# Altium integrated library lps_display_rev5.IntLib: 39 symbols
Pins are listed as number, name and electrical type; pins without a type are passive.

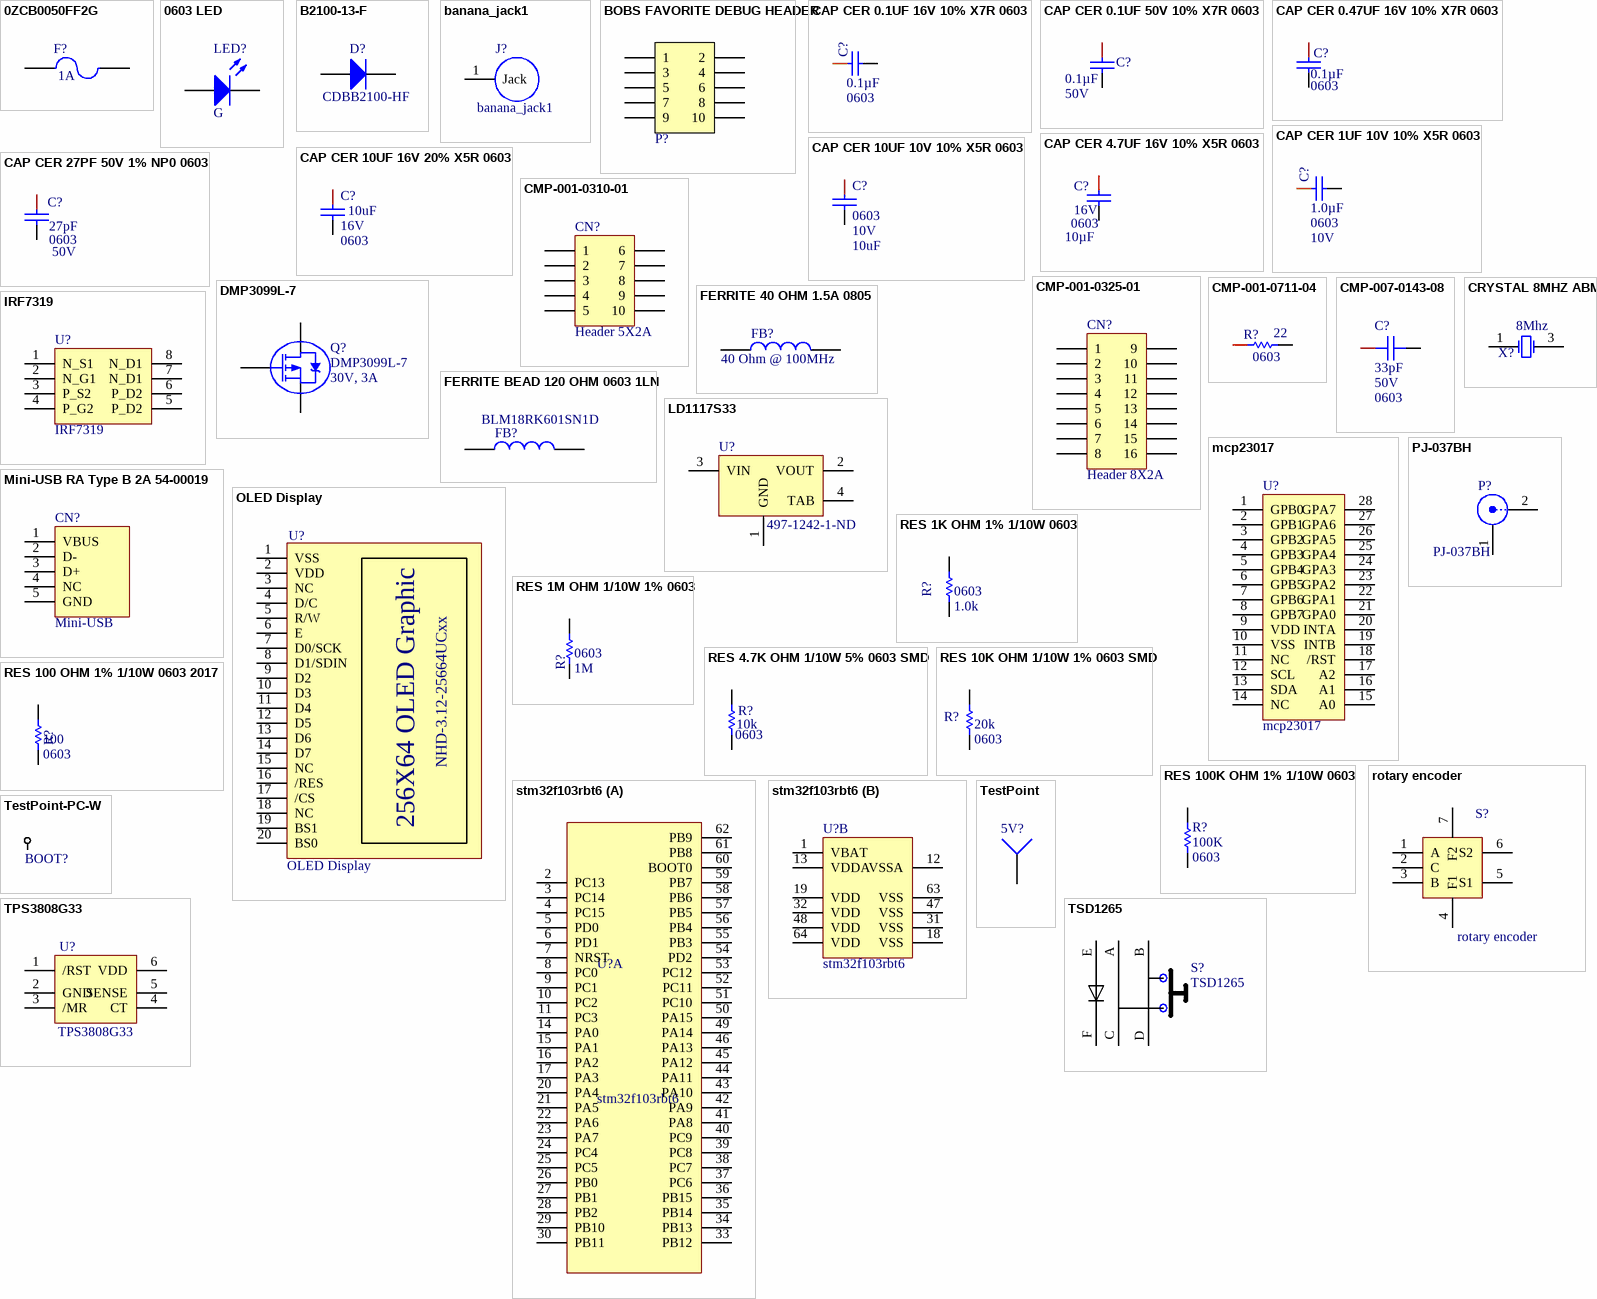
[diagram p0: symbols 0ZCB0050FF2G to TSD1265]

## 0ZCB0050FF2G
designator F?, comment 1A
1A PTC Fuse; Manufacturer: Bel Fuse; MPN: 0ZCB0050FF2G; Vendor: Digikey; PN: 507-1489-1-ND
footprint PTC-3225[1210] (Chip PTC; Body 3.2 x 2.5 mm (LxW typ))
pins: 1, 2

## 0603 LED
designator LED?, comment G
0603 SMD LED; PN: P11500CT-ND; Vendor: Digikey
footprint SM-LED-0603 (0603 LED)
pins: 1, 2

## B2100-13-F
designator D?, comment CDBB2100-HF
DIODE SCHOTTKY 100V 2A SMB; Manufacturer: Comchip Technology; Voltage - Forward (Vf) (Max) @ If: 810mV @ 2A; Speed: Fast Recovery =< 500ns, > 200mA (Io); Current - Reverse Leakage @ Vr: 500µA @ 100V; Capacitance @ Vr, F: 30pF @ 4V, 1MHz; Supplier 1: Digi-Key; Manufacturer Part Number: CDBB2100-HF; RoHS: RoHS Compliant; Category: Discrete Semiconductor Products; Stock 1: 7333; Pricing 1: 1=0.46, 10=0.364, 25=0.3068, 100=0.2498, 250=0.207, 500=0.1713, 1000=0.12848 (USD); Packaging: Cut Tape (CT); Part Status: Active; Diode Type: Schottky; Voltage - DC Reverse (Vr) (Max): 100V; Current - Average Rectified (Io): 2A; Mounting Type: Surface Mount; Package / Case: DO-214AA, SMB; Supplier Device Package: DO-214AA (SMB); Operating Temperature - Junction: -50°C ~ 150°C; ComponentLink1URL: http://www.comchiptech.com/cms/UserFiles/CDBB240-HF%20Thru503873.%20CDBB2100-HF%20RevD.pdf; ComponentLink1Description: http://www.comchiptech.com/cms/UserFiles/CDBB240-HF%20Thru503873.%20CDBB2100-HF%20RevD.pdf; Supplier Part Number 1: 641-1714-1-ND
footprint DO-214-AC/SMA (DO-214-AC/SMA; 2 C-Bend Leads; Body 5 x 2.7 mm, inc. leads (LxW))
pins: 1 A (power), 2 K

## banana_jack1
designator J?
footprint Banana_jack1
pins: 1 Jack

## BOBS FAVORITE DEBUG HEADER
designator P?  (value not drawn)
HEADER 10 POS DUAL .05" SMD; Manufacturer: Samtec Inc.; Manufacturer Part Number: FTSH-105-01-L-DV-K; Connector Type: Header, Shrouded; Number of Positions: 10; Number of Positions Loaded: All; Pitch: 0.050" (1.27mm); Supplier 1: Digi-Key; RoHS: RoHS Compliant; Category: Connectors, Interconnects; Stock 1: 112; Pricing 1: 1=3.25, 10=2.75, 50=2.375, 100=2.125, 250=1.875, 500=1.75, 1000=1.625, 2500=1.5625, 5000=1.53125 (USD); Packaging: Tube; Contact Type: Male Pin; Number of Rows: 2; Row Spacing: 0.050" (1.27mm); Contact Mating Length: 0.120" (3.05mm); Mounting Type: Surface Mount; Termination: Solder; Fastening Type: -; Features: -; Contact Finish: Gold; Contact Finish Thickness: 10µin (0.25µm); Color: Black; ComponentLink1URL: http://suddendocs.samtec.com/prints/ftsh-1xx-xx-xxx-dv-xxx-mkt.pdf; ComponentLink1Description: http://suddendocs.samtec.com/prints/ftsh-1xx-xx-xxx-dv-xxx-mkt.pdf; Supplier Part Number 1: SAM8799-ND
footprint BOBS FAVORITE DEBUG HDR (trying to fix problem)
pins: 1, 2, 3, 4, 5, 6, 7, 8, 9, 10

## CAP CER 0.1UF 16V 10% X7R 0603
designator C?, comment Capacitance: 0.1µF  Package / Case: 0603  (hidden comment: 0.1uF)
0.1uF 0603 16V; Manufacturer: Kemet; Manufacturer Part Number: C0603C104K4RACTU; Tolerance: ±10%; Temperature Coefficient: X7R; Supplier 1: Digi-Key; RoHS: RoHS Compliant; Category: Capacitors; Stock 1: 2360000; Pricing 1: 4000=0.00414, 8000=0.00378, 12000=0.0036, 28000=0.00342, 100000=0.00248 (USD); Packaging: Tape & Reel (TR); Mounting Type: Surface Mount, MLCC; Operating Temperature: -55°C ~ 125°C; Applications: General Purpose; Ratings: -; Size / Dimension: 0.063" L x 0.031" W (1.60mm x 0.80mm); Height - Seated (Max): -; Thickness (Max): 0.034" (0.87mm); Lead Spacing: -; Features: -; Lead Style: -; ComponentLink1URL: http://www.kemet.com/datasheets&C0603C104K4RACTU; ComponentLink1Description: http://www.kemet.com/datasheets&C0603C104K4RACTU; Supplier Part Number 1: 399-1096-2-ND; Voltage - Rated: 16V
footprint CAPC0603(1608)_L (Chip Capacitor, Body 1.6x0.8mm, Height 1.0mm, IPC High Density)
footprint CAPC0603(1608)_M (Chip Capacitor, Body 1.6x0.8mm, Height 1.0mm, IPC Low Density)
footprint CAPC0603(1608)_N (Chip Capacitor, Body 1.6x0.8mm, Height 1.0mm, IPC Medium Density)
pins: 1, 2

## CAP CER 0.1UF 50V 10% X7R 0603
designator C?, comment Capacitance: 0.1µF  Voltage - Rated: 50V  (hidden comment: 0.1uF 0603 50V)
Manufacturer: Kemet; Manufacturer Part Number: C0603C104K5RACTU; Tolerance: ±10%; Temperature Coefficient: X7R; ClassName: AD1; Supplier 1: Digi-Key; RoHS: RoHS Compliant; Category: Capacitors; Stock 1: 1397942; Pricing 1: 1=0.1, 10=0.041, 50=0.0222, 100=0.0187, 250=0.01532, 500=0.0131, 1000=0.0102 (USD); Packaging: Cut Tape (CT); Mounting Type: Surface Mount, MLCC; Operating Temperature: -55°C ~ 125°C; Applications: General Purpose; Ratings: -; Package / Case: 0603 (1608 Metric); Size / Dimension: 0.063" L x 0.031" W (1.60mm x 0.80mm); Height - Seated (Max): -; Thickness (Max): 0.034" (0.87mm); Lead Spacing: -; Features: -; Lead Style: -; ComponentLink1URL: http://www.kemet.com/docfinder?Partnumber=C0603C104K5RACTU; ComponentLink1Description: http://www.kemet.com/docfinder?Partnumber=C0603C104K5RACTU; Supplier Part Number 1: 399-5089-1-ND
footprint CAPC0603(1608)_L (Chip Capacitor, Body 1.6x0.8mm, Height 1.0mm, IPC High Density)
footprint CAPC0603(1608)_M (Chip Capacitor, Body 1.6x0.8mm, Height 1.0mm, IPC Low Density)
footprint CAPC0603(1608)_N (Chip Capacitor, Body 1.6x0.8mm, Height 1.0mm, IPC Medium Density)
pins: 1, 2

## CAP CER 0.47UF 16V 10% X7R 0603
designator C?, comment Package / Case: 0603  Capacitance: 0.1µF  (hidden comment: 0.47uF)
0.47uF 0603 16V; Manufacturer: Kemet; Manufacturer Part Number: C0603C474K4RACTU; Tolerance: ±10%; Temperature Coefficient: X7R; Supplier 1: Digi-Key; RoHS: RoHS Compliant; Category: Capacitors; Stock 1: 84679; Pricing 1: 1=0.15, 10=0.1, 50=0.0576, 100=0.0475, 250=0.04, 500=0.0335, 1000=0.0275 (USD); Packaging: Cut Tape (CT); Voltage - Rated: 16V; Mounting Type: Surface Mount, MLCC; Operating Temperature: -55°C ~ 125°C; Applications: General Purpose; Ratings: -; Size / Dimension: 0.063" L x 0.031" W (1.60mm x 0.80mm); Height - Seated (Max): -; Thickness (Max): 0.034" (0.87mm); Lead Spacing: -; Features: -; Lead Style: -; ComponentLink1URL: http://www.kemet.com/docfinder?Partnumber=C0603C474K4RACTU; ComponentLink1Description: http://www.kemet.com/docfinder?Partnumber=C0603C474K4RACTU; Supplier Part Number 1: 399-4922-1-ND
footprint CAPC0603(1608)_L (Chip Capacitor, Body 1.6x0.8mm, Height 1.0mm, IPC High Density)
footprint CAPC0603(1608)_M (Chip Capacitor, Body 1.6x0.8mm, Height 1.0mm, IPC Low Density)
footprint CAPC0603(1608)_N (Chip Capacitor, Body 1.6x0.8mm, Height 1.0mm, IPC Medium Density)
pins: 1, 2

## CAP CER 1UF 10V 10% X5R 0603
designator C?, comment Capacitance: 1.0µF  Package / Case: 0603  Voltage - Rated: 10V  (hidden comment: 1uF)
1uF 0603 10V; Manufacturer: Kemet; Manufacturer Part Number: C0603C105K8PACTU; Tolerance: ±10%; Temperature Coefficient: X5R; Supplier 1: Digi-Key; RoHS: RoHS Compliant; Category: Capacitors; Stock 1: 1121198; Pricing 1: 1=0.1, 10=0.043, 25=0.0304, 50=0.0232, 100=0.0196, 250=0.01608, 1000=0.0105 (USD); Packaging: Cut Tape (CT); Mounting Type: Surface Mount, MLCC; Operating Temperature: -55°C ~ 85°C; Applications: General Purpose; Ratings: -; Size / Dimension: 0.063" L x 0.031" W (1.60mm x 0.80mm); Height - Seated (Max): -; Thickness (Max): 0.035" (0.90mm); Lead Spacing: -; Features: -; Lead Style: -; ComponentLink1URL: http://www.kemet.com/datasheets&C0603C105K8PACTU; ComponentLink1Description: http://www.kemet.com/datasheets&C0603C105K8PACTU; Supplier Part Number 1: 399-3118-1-ND
footprint CAPC0603(1608)_L (Chip Capacitor, Body 1.6x0.8mm, Height 1.0mm, IPC High Density)
footprint CAPC0603(1608)_M (Chip Capacitor, Body 1.6x0.8mm, Height 1.0mm, IPC Low Density)
footprint CAPC0603(1608)_N (Chip Capacitor, Body 1.6x0.8mm, Height 1.0mm, IPC Medium Density)
pins: 1, 2

## CAP CER 4.7UF 16V 10% X5R 0603
designator C?, comment Voltage - Rated: 16V  Package / Case: 0603  Capacitance: 10µF  (hidden comment: 4.7UF 0603)
Manufacturer: Taiyo Yuden; Manufacturer Part Number: EMK107ABJ475KA-T; Tolerance: ±10%; Temperature Coefficient: X5R; ClassName: *; Supplier 1: Digi-Key; RoHS: RoHS Compliant; Category: Capacitors; Stock 1: 498907; Pricing 1: 1=0.26, 10=0.216, 50=0.1216, 100=0.108, 250=0.081, 500=0.07154, 1000=0.06345 (USD); Packaging: Cut Tape (CT); Mounting Type: Surface Mount, MLCC; Operating Temperature: -55°C ~ 85°C; Applications: General Purpose; Ratings: -; Size / Dimension: 0.063" L x 0.031" W (1.60mm x 0.80mm); Height - Seated (Max): -; Thickness (Max): 0.035" (0.90mm); Lead Spacing: -; Features: -; Lead Style: -; ComponentLink1URL: http://www.yuden.co.jp/or/product/category/capacitor/EMK107ABJ475KA-T.pdf; ComponentLink1Description: http://www.yuden.co.jp/or/product/category/capacitor/EMK107ABJ475KA-T.pdf; Supplier Part Number 1: 587-2786-1-ND
footprint CAPC0603(1608)_L (Chip Capacitor, Body 1.6x0.8mm, Height 1.0mm, IPC High Density)
footprint CAPC0603(1608)_M (Chip Capacitor, Body 1.6x0.8mm, Height 1.0mm, IPC Low Density)
footprint CAPC0603(1608)_N (Chip Capacitor, Body 1.6x0.8mm, Height 1.0mm, IPC Medium Density)
pins: 1, 2

## CAP CER 10UF 10V 10% X5R 0603
designator C?, comment Package / Case: 0603  Voltage - Rated: 10V  Capacitance: 10uF  (hidden comment: CAP 10UF 10V 10% X5R 0603)
10uF 0603; Manufacturer: Samsung Electro-Mechanics America, Inc; Manufacturer Part Number: CL10A106KP8NNNC; ClassName: *; Supplier 1: Digi-Key; RoHS: RoHS Compliant; Category: Capacitors; Stock 1: 157585; Pricing 1: 1=0.48, 10=0.42, 25=0.3, 100=0.21, 500=0.153, 1000=0.138 (USD); Packaging: Cut Tape (CT); Tolerance: ±10%; Temperature Coefficient: X5R; Mounting Type: Surface Mount, MLCC; Operating Temperature: -55°C ~ 85°C; Applications: General Purpose; Ratings: -; Size / Dimension: 0.063" L x 0.031" W (1.60mm x 0.80mm); Height - Seated (Max): -; Thickness (Max): 0.035" (0.90mm); Lead Spacing: -; Features: -; Lead Style: -; ComponentLink1URL: http://www.samsungsem.com/kr/front/downloadcms.do?path=/kr/support/product-search/mlcc/__icsFiles/afieldfile/2014/11/05&fileName=S_CL10A106KP8NNNC.pdf; ComponentLink1Description: http://www.samsungsem.com/kr/front/downloadcms.do?path=/kr/support/product-search/mlcc/__icsFiles/afieldfile/2014/11/05&fileName=S_CL10A106KP8NNNC.pdf; Supplier Part Number 1: 1276-1192-1-ND
footprint CAPC0603(1608)_L (Chip Capacitor, Body 1.6x0.8mm, Height 1.0mm, IPC High Density)
footprint CAPC0603(1608)_M (Chip Capacitor, Body 1.6x0.8mm, Height 1.0mm, IPC Low Density)
footprint CAPC0603(1608)_N (Chip Capacitor, Body 1.6x0.8mm, Height 1.0mm, IPC Medium Density)
pins: 1, 2

## CAP CER 10UF 16V 20% X5R 0603
designator C?, comment 10uF  Package / Case: 0603  Voltage - Rated: 16V
10UF 0603 16V; Manufacturer: Murata Electronics North America; Manufacturer Part Number: GRM188R61C106MA73D; Capacitance: 10µF; Tolerance: ±20%; Temperature Coefficient: X5R; Supplier 1: Digi-Key; RoHS: RoHS Compliant; Category: Capacitors; Stock 1: 99081; Pricing 1: 1=0.18, 10=0.167, 25=0.1428, 50=0.1214, 100=0.1167, 250=0.1048, 500=0.10002, 1000=0.08335 (USD); Packaging: Cut Tape (CT); Mounting Type: Surface Mount, MLCC; Operating Temperature: -55°C ~ 85°C; Applications: General Purpose; Ratings: -; Size / Dimension: 0.063" L x 0.031" W (1.60mm x 0.80mm); Height - Seated (Max): -; Thickness (Max): 0.031" (0.80mm); Lead Spacing: -; Features: -; Lead Style: -; ComponentLink1URL: http://www.murata.com/~/media/webrenewal/support/library/catalog/products/capacitor/mlcc/c02e.ashx; ComponentLink1Description: http://www.murata.com/~/media/webrenewal/support/library/catalog/products/capacitor/mlcc/c02e.ashx; Supplier Part Number 1: 490-7201-1-ND
footprint CAPC0603(1608)_L (Chip Capacitor, Body 1.6x0.8mm, Height 1.0mm, IPC High Density)
footprint CAPC0603(1608)_M (Chip Capacitor, Body 1.6x0.8mm, Height 1.0mm, IPC Low Density)
footprint CAPC0603(1608)_N (Chip Capacitor, Body 1.6x0.8mm, Height 1.0mm, IPC Medium Density)
pins: 1, 2

## CAP CER 27PF 50V 1% NP0 0603
designator C?, comment Voltage - Rated: 50V  Package / Case: 0603  Capacitance: 27pF  (hidden comment: 27pF 0603)
Manufacturer: Kemet; Manufacturer Part Number: C0603C270F5GACTU; Tolerance: ±1%; Temperature Coefficient: C0G, NP0; Supplier 1: Digi-Key; RoHS: RoHS Compliant; Category: Capacitors; Stock 1: 27319; Pricing 1: 1=0.94, 10=0.795, 25=0.6596, 50=0.5848, 100=0.4648, 250=0.38984, 1000=0.31605 (USD); Packaging: Cut Tape (CT); Mounting Type: Surface Mount, MLCC; Operating Temperature: -55°C ~ 125°C; Applications: General Purpose; Ratings: -; Size / Dimension: 0.063" L x 0.031" W (1.60mm x 0.80mm); Height - Seated (Max): -; Thickness (Max): 0.034" (0.87mm); Lead Spacing: -; Features: -; Lead Style: -; ComponentLink1URL: http://www.kemet.com/docfinder?Partnumber=C0603C270F5GACTU; ComponentLink1Description: http://www.kemet.com/docfinder?Partnumber=C0603C270F5GACTU; Supplier Part Number 1: 399-7888-1-ND
footprint CAPC0603(1608)_L (Chip Capacitor, Body 1.6x0.8mm, Height 1.0mm, IPC High Density)
footprint CAPC0603(1608)_M (Chip Capacitor, Body 1.6x0.8mm, Height 1.0mm, IPC Low Density)
footprint CAPC0603(1608)_N (Chip Capacitor, Body 1.6x0.8mm, Height 1.0mm, IPC Medium Density)
pins: 1, 2

## CMP-001-0310-01
designator CN?, comment Header 5X2A
Header, 5-Pin, Dual row; Signal Integrity: Connector; Designator: Header 5X2A; Component Name: Header 5X2A; LatestRevisionDate: 17-Jul-2002; LatestRevisionNote: Re-released for DXP Platform.; Pin Count: 10; Publisher: Altium Limited; Component Type: Connector
footprint HDR2X5_CEN (Connector; Header; 5x2 Position)
pins: 1, 2, 3, 4, 5, 6, 7, 8, 9, 10

## CMP-001-0325-01
designator CN?, comment Header 8X2A
Header, 8-Pin, Dual row; Signal Integrity: Connector; Publisher: Altium Limited; Designator: Header 8X2A; LatestRevisionNote: Re-released for DXP Platform.; Pin Count: 16; Component Name: Header 8X2A; LatestRevisionDate: 17-Jul-2002; Component Type: Connector
footprint HDR2X8_CEN (Connector; Header; 8x2 Position)
pins: 1, 2, 3, 4, 5, 6, 7, 8, 9, 10, 11, 12, 13, 14, 15, 16

## CMP-001-0711-04
designator R?, comment Package (Imperial): 0603  (hidden comment: 22)
Res Thick Film 0603 22 Ohm 5% 1/10W ±100ppm/C Molded SMD Paper T/R; Manufacturer 1: Stackpole Electronics; Manufacturer Part Number 1: RMCF0603JT22R0; Max Power Dissipation: 100mW; Package (Metric): 1608; Temperature Coefficient: 100ppm/°C; Power Rating: 100mW; Mount: Surface Mount; Termination: SMD/SMT; Power: 100mW; Height: 550µm; Length: 1.55mm; Min Operating Temperature: -55°C; Resistance: 22; Width: 800µm; Tolerance: 5%; Max Operating Temperature: 155°C; Component Type: Resistor
footprint RESC0603(1608)_M (Chip Resistor, Body 1.6x0.8mm, IPC Low Density)
pins: 1, 2

## CMP-007-0143-08
designator C?, comment 33pF  Voltage (Rated): 50V  Package (Imperial): 0603
CAP CER 33PF 50V 5% NP0 0603; Manufacturer 1: KEMET; Manufacturer Part Number 1: C0603C330J5GACTU; Dielectric Material: Ceramic; Package (Metric): 1608; Temperature Coefficient: C0G, NP0; Tolerance: 5%; Mounting Type: SMD; Capacitance: 33pF; Manufacturer 2: TDK-Lambda; Manufacturer Part Number 2: C0603C330J5GACTU; Component Type: Ceramic
footprint CAPC0603(1608)_M (Chip Capacitor, Body 1.6x0.8mm, Height 1.0mm, IPC Low Density)
footprint CAPC0603(1608)_N (Chip Capacitor, Body 1.6x0.8mm, Height 1.0mm, IPC Medium Density)
footprint CAPC0603(1608)_L (Chip Capacitor, Body 1.6x0.8mm, Height 1.0mm, IPC High Density)
pins: 1, 2
1 alternate drawing of the same symbol

## CRYSTAL 8MHZ ABM3
designator X?, comment 8Mhz
8Mhz ABM3 Parallel Load Crystal; Manufacturer: Abracon Corporation; Manufacturer Part Number: ABM3B-8.000MHZ-B2-T; Frequency Stability: ±50ppm; Frequency Tolerance: ±20ppm; Load Capacitance: 18pF; ESR (Equivalent Series Resistance): 200 Ohm; Operating Mode: Fundamental; ClassName: Master Clock; Supplier 1: Digi-Key; RoHS: RoHS Compliant; Category: Crystals and Oscillators; Stock 1: 22545; Pricing 1: 1=1.04, 10=0.92, 50=0.8588, 100=0.76, 500=0.7182 (USD); Packaging: Cut Tape (CT); Type: MHz Crystal; Frequency: 8MHz; Operating Temperature: -20°C ~ 70°C; Ratings: -; Mounting Type: Surface Mount; Package / Case: 4-SMD, No Lead (DFN, LCC); Size / Dimension: 0.197" L x 0.126" W (5.00mm x 3.20mm); Height: 0.043" (1.10mm); ComponentLink1URL: http://www.abracon.com/Resonators/abm3b.pdf; ComponentLink1Description: http://www.abracon.com/Resonators/abm3b.pdf; Supplier Part Number 1: 535-9720-1-ND
footprint SMXOSC/5x3.2 (SM 5.0x3.2mm  Oscillator)
pins: 1 OSC1, 2 NC hidden, 3 OSC2, 4 NC hidden

## DMP3099L-7
designator Q?  Text: 30V, 3A
MOSFET P-CH 30V SOT23; Manufacturer: Diodes Incorporated; FET Type: P-Channel; Current - Continuous Drain (Id) @ 25°C: 3.8A (Ta); Drive Voltage (Max Rds On,  Min Rds On): 4.5V, 10V; Vgs(th) (Max) @ Id: 2.1V @ 250µA; Vgs (Max): ±20V; Power Dissipation (Max): 1.08W (Ta); Rds On (Max) @ Id, Vgs: 65 mOhm @ 3.8A, 10V; Supplier 1: Digi-Key; Manufacturer Part Number: DMP3099L-7; RoHS: RoHS Compliant; Category: Discrete Semiconductor Products; Stock 1: 138833; Pricing 1: 1=0.42, 10=0.306, 100=0.1801, 500=0.10198, 1000=0.07818 (USD); Packaging: Cut Tape (CT); Part Status: Active; Technology: MOSFET (Metal Oxide); FET Feature: -; Operating Temperature: -55°C ~ 150°C (TJ); Mounting Type: Surface Mount; Supplier Device Package: SOT-23; Package / Case: TO-236-3, SC-59, SOT-23-3; ComponentLink1URL: https://www.diodes.com/assets/Datasheets/DMP3099L.pdf; ComponentLink1Description: https://www.diodes.com/assets/Datasheets/DMP3099L.pdf; Supplier Part Number 1: DMP3099L-7DICT-ND
footprint SOT23 (SOT-23; 3 Leads; Body 3.0 x 2.5 mm, inc. leads (LxW max))
pins: 1 G, 2 S, 3 D

## FERRITE 40 OHM 1.5A 0805
designator FB?, comment 40 Ohm @ 100MHz
40 OHM 0805 1.5A; Manufacturer: Laird-Signal Integrity Products; Manufacturer Part Number: MI0805K400R-10; DC Resistance (DCR): 50 mOhm Max; Filter Type: Differential Mode - Single; Creator: osman; Supplier 1: Digi-Key; RoHS: RoHS Compliant; Category: Filters; Stock 1: 112318; Pricing 1: 1=0.1, 10=0.077, 25=0.07, 50=0.0628, 100=0.0461, 250=0.03352, 500=0.03074, 1000=0.02654 (USD); Packaging: Cut Tape (CT); Current Rating: 1.5A; Package / Case: 0805 (2012 Metric); Mounting Type: Surface Mount; Height (Max): 0.043" (1.10mm); Size / Dimension: 0.079" L x 0.049" W (2.00mm x 1.25mm); ComponentLink1URL: http://staging.lairdtech.com/WorkArea/linkit.aspx?LinkIdentifier=id&ItemID=4949; ComponentLink1Description: http://staging.lairdtech.com/WorkArea/linkit.aspx?LinkIdentifier=id&ItemID=4949; Supplier Part Number 1: 240-2389-1-ND; Impedance @ Frequency: 40 Ohm @ 100MHz
footprint RESC0805(2012)_N (Chip Resistor, Body 2.0x1.3mm, IPC Medium Density)
footprint RESC0805(2012)_L (Chip Resistor, Body 2.0x1.3mm, IPC High Density)
footprint RESC0805(2012)_M (Chip Resistor, Body 2.0x1.3mm, IPC Low Density)
pins: 1, 2

## FERRITE BEAD 120 OHM 0603 1LN
designator FB?, comment BLM18RK601SN1D
FERRITE 120 OHM 0603 500mA; Manufacturer: TDK Corporation; Manufacturer Part Number: MMZ1608R121ATA00; Filter Type: Signal Line; Number of Lines: 1; Impedance @ Frequency: 120 Ohm @ 100MHz; DC Resistance (DCR) (Max): 180 mOhm; ClassName: *; Creator: *; Supplier 1: Digi-Key; RoHS: RoHS Compliant; Category: Filters; Stock 1: 21122; Pricing 1: 1=0.1, 10=0.073, 100=0.0436, 250=0.03168, 500=0.02904, 1000=0.02508 (USD); Packaging: Cut Tape (CT); Part Status: Active; Current Rating (Max): 500mA; Ratings: -; Operating Temperature: -55°C ~ 125°C; Package / Case: 0603 (1608 Metric); Mounting Type: Surface Mount; Height (Max): 0.037" (0.95mm); Size / Dimension: 0.063" L x 0.031" W (1.60mm x 0.80mm); ComponentLink1URL: https://product.tdk.com/info/en/catalog/datasheets/beads_commercial_signal_mmz1608_en.pdf; ComponentLink1Description: https://product.tdk.com/info/en/catalog/datasheets/beads_commercial_signal_mmz1608_en.pdf; Supplier Part Number 1: 445-2170-1-ND
footprint RESC0603(1608)_N (Chip Resistor, Body 1.6x0.8mm, IPC Medium Density)
footprint RESC0603(1608)_L (Chip Resistor, Body 1.6x0.8mm, IPC High Density)
footprint RESC0603(1608)_M (Chip Resistor, Body 1.6x0.8mm, IPC Low Density)
pins: 1, 2

## IRF7319
designator U?
pins: 1 N_S1, 2 N_G1, 3 P_S2, 4 P_G2, 5 P_D2, 6 P_D2, 7 N_D1, 8 N_D1

## LD1117S33
designator U?, comment Supplier Part Number 1: 497-1242-1-ND  (hidden comment: 3.3V)
3.3 volt fixed regulator, 800mA; Supplier 1: Digi-Key
footprint DSO-G3 (SOT-223/SC-73; 4 Leads; Body 6.7 x 7.3 mm, inc. leads (LxW max))
pins: 1 GND (power), 2 VOUT (power), 3 VIN (power), 4 TAB (power)

## mcp23017
designator U?
I2C 16 bit Expander
footprint SOIC28
pins: 1 GPB0, 2 GPB1, 3 GPB2, 4 GPB3, 5 GPB4, 6 GPB5, 7 GPB6, 8 GPB7, 9 VDD, 10 VSS, 11 NC, 12 SCL, 13 SDA, 14 NC, 15 A0, 16 A1, 17 A2, 18 /RST, 19 INTB, 20 INTA, 21 GPA0, 22 GPA1, 23 GPA2, 24 GPA3, 25 GPA4, 26 GPA5, 27 GPA6, 28 GPA7

## Mini-USB RA Type B 2A 54-00019
designator CN?, comment Mini-USB
Mini-USB RA Type B 2A; Manufacturer: Tensility International Corp; Manufacturer Part Number: 54-00019; Connector Type: USB - mini B; Number of Contacts: 5; Gender: Receptacle; Number of Ports: 1; Voltage - Rated: 30VDC; Mating Cycles: 5000; Shielding: Unshielded; Supplier 1: Digi-Key; RoHS: RoHS Compliant; Category: Connectors, Interconnects; Stock 1: 0; Pricing 1: 50=0.6202 (USD); Packaging: Tube; Part Status: Active; Specifications: -; Mounting Type: Through Hole, Right Angle; Mounting Feature: Horizontal; Termination: Solder; Features: Board Guide; Ingress Protection: -; Operating Temperature: -10°C ~ 60°C; Current Rating: 2A; Contact Finish: Gold; Shell/Shielding Material: Phosphor Bronze; Material Flammability Rating: -; Insulation Color: Black; ComponentLink1URL: http://www.tensility.com/pdffiles/54-00019.pdf; ComponentLink1Description: http://www.tensility.com/pdffiles/54-00019.pdf; Supplier Part Number 1: 54-00019T-ND; Supplier Link 2: https://www.arrow.com/en/products/54-00019/tensility-international; Supplier 2: Arrow
footprint USB-MINI-B - 2A (Mini RA USB-B Connector 2A)
pins: 0 GND (power) hidden to GND, 1 VBUS (power), 2 D-, 3 D+, 4 NC, 5 GND (power)

## OLED Display
designator U?
footprint oled_graphic_256X64 (OLED Display graphic 256x64)
pins: 1 VSS, 2 VDD, 3 NC, 4 D/C, 5 R/W, 6 E, 7 D0/SCK, 8 D1/SDIN, 9 D2, 10 D3, 11 D4, 12 D5, 13 D6, 14 D7, 15 NC, 16 /RES, 17 /CS, 18 NC, 19 BS1, 20 BS0
text: NHD-3.12-25664UCxx; 256X64 OLED Graphic

## PJ-037BH
designator P?
2.5x5.5mm Power Jack; Manufacturer: CUI Inc; Gender: Male; Plug/Mating Plug Diameter: 2.5mm ID, 5.5mm OD; Number of Positions/Contacts: 2 Conductors, 2 Contacts; Internal Switch(s): Does Not Contain Switch; Shielding: Unshielded; Voltage - Rated: 16VDC; Current Rating: 5A; Supplier 1: Digi-Key; Manufacturer Part Number: PJ-037BH; RoHS: RoHS Compliant; Category: Connectors, Interconnects; Stock 1: 179; Pricing 1: 1=1.11, 10=0.777, 100=0.5217, 500=0.4218, 1000=0.3774, 2500=0.2997 (USD); Connector Type: Jack; Mounting Type: Through Hole, Right Angle; Termination: Solder Eyelet(s); Features: -; Color: Black; Contact Material: Copper; Contact Material - Plating: Nickel; Housing Color: Black; Housing Material: Thermoplastic; Operating Temperature: -; ComponentLink1URL: http://www.cui.com/product/resource/digikeypdf/pj-037bh.pdf; ComponentLink1Description: http://www.cui.com/product/resource/digikeypdf/pj-037bh.pdf; Supplier Part Number 1: CP-037BH-ND
footprint pwrplug
pins: 1, 2

## RES 1K OHM 1% 1/10W 0603
designator R?, comment Package / Case: 0603  (hidden comment: 1.0K)
1.0K 0603; Manufacturer: Stackpole Electronics Inc.; Manufacturer Part Number: RMCF0603FT1K00; Tolerance: ±1%; Power (Watts): 0.1W, 1/10W; Temperature Coefficient: ±100ppm/°C; Supplier 1: Digi-Key; RoHS: RoHS Compliant; Category: Resistors; Stock 1: 411308; Pricing 1: 1=0.1, 10=0.02, 100=0.0081, 1000=0.00364, 2500=0.00316 (USD); Packaging: Cut Tape (CT); Part Status: Active; Composition: Thick Film; Features: Automotive AEC-Q200; Operating Temperature: -55°C ~ 155°C; Size / Dimension: 0.061" L x 0.031" W (1.55mm x 0.80mm); Height - Seated (Max): 0.022" (0.55mm); Failure Rate: -; ComponentLink1URL: https://www.seielect.com/Catalog/SEI-RMCF_RMCP.pdf; ComponentLink1Description: https://www.seielect.com/Catalog/SEI-RMCF_RMCP.pdf; Supplier Part Number 1: RMCF0603FT1K00CT-ND; Supplier Device Package: 0603; Resistance (Ohms): 1.0k
footprint RESC0603(1608)_L (Chip Resistor, Body 1.6x0.8mm, IPC High Density)
footprint RESC0603(1608)_M (Chip Resistor, Body 1.6x0.8mm, IPC Low Density)
footprint RESC0603(1608)_N (Chip Resistor, Body 1.6x0.8mm, IPC Medium Density)
pins: 1, 2

## RES 1M OHM 1/10W 1% 0603
designator R?, comment Package / Case: 0603  (hidden comment: 1M)
1M 0603; Manufacturer: Yageo; Manufacturer Part Number: RC0603FR-071ML; Voltage Rating: 50V; Tolerance: ±1%; Power Rating: 100mW; Temperature Coefficient: 100ppm/°C; ComponentLink1URL: http://industrial.panasonic.com/www-cgi/jvcr13pz.cgi?E+PZ+3+AOA0002+ERJ3EKF1004V+7+WW; ComponentLink1Description: http://industrial.panasonic.com/www-cgi/jvcr13pz.cgi?E+PZ+3+AOA0002+ERJ3EKF1004V+7+WW; ComponentLink2URL: https://datasheet.ciiva.com/12555/rc0603-272842-12555388.pdf; ComponentLink2Description: https://datasheet.ciiva.com/12555/rc0603-272842-12555388.pdf; ComponentLink3URL: https://datasheet.ciiva.com/7983/443971-7983614.pdf; ComponentLink3Description: https://datasheet.ciiva.com/7983/443971-7983614.pdf; ComponentLink4URL: https://datasheet.ciiva.com/11819/0900766b80f96399-11819295.pdf; ComponentLink4Description: https://datasheet.ciiva.com/11819/0900766b80f96399-11819295.pdf; Supplier 1: Digi-Key; Supplier Part Number 1: 311-1.00MHRCT-ND; Stock 1: 2416528; Pricing 1: 1=0.1, 10=0.015, 100=0.006, 1000=0.0027, 2500=0.0023 (USD); Case/Package: 0603; Number of Pins: 2; Case Code (Imperial): 0603; Case Code (Metric): 1608; Min Operating Temperature: -55°C; Max Operating Temperature: 155°C; Resistance: 1M; Packaging: Tape and Reel; Package Quantity: 5000; Termination: SMD/SMT; Composition: Thick Film; Military Standard: Not; Length: 1.6mm; Height: 0.45mm; Width: 0.8mm; Depth: 0.8mm; REACH SVHC: No SVHC; Lead Free: Lead Free; Category: Resistors; Resistance (Ohms): 1M
simulation model RESISTOR (Resistor)
signal-integrity model Res
footprint AXIAL-0.4
footprint RESC0603(1608)_L (Chip Resistor, Body 1.6x0.8mm, IPC High Density)
footprint RESC0603(1608)_M (Chip Resistor, Body 1.6x0.8mm, IPC Low Density)
footprint RESC0603(1608)_N (Chip Resistor, Body 1.6x0.8mm, IPC Medium Density)
pins: 1, 2

## RES 4.7K OHM 1/10W 5% 0603 SMD
designator R?, comment Resistance (Ohms): 10k  Package / Case: 0603  (hidden comment: 4.7K)
4.7K 0603; Manufacturer: Panasonic Electronic Components; Manufacturer Part Number: ERJ-3GEYJ472V; Tolerance: ±5%; Power (Watts): 0.1W, 1/10W; Temperature Coefficient: ±200ppm/°C; Supplier 1: Digi-Key; RoHS: RoHS Compliant; Category: Resistors; Stock 1: 1261582; Pricing 1: 1=0.1, 50=0.0126, 100=0.0096, 250=0.00716, 500=0.00528, 1000=0.00352, 2500=0.00297 (USD); Packaging: Cut Tape (CT); Composition: Thick Film; Features: Automotive AEC-Q200 Qualified; Supplier Device Package: 0603; Size / Dimension: 0.063" L x 0.031" W (1.60mm x 0.80mm); Height: 0.022" (0.55mm); Number of Terminations: 2; ComponentLink1URL: http://industrial.panasonic.com/www-cgi/jvcr13pz.cgi?E+PZ+3+AOA0001+ERJ3GEYJ472V+7+WW; ComponentLink1Description: http://industrial.panasonic.com/www-cgi/jvcr13pz.cgi?E+PZ+3+AOA0001+ERJ3GEYJ472V+7+WW; Supplier Part Number 1: P4.7KGCT-ND
simulation model RESISTOR (Resistor)
signal-integrity model Res
footprint RESC0603(1608)_L (Chip Resistor, Body 1.6x0.8mm, IPC High Density)
footprint RESC0603(1608)_M (Chip Resistor, Body 1.6x0.8mm, IPC Low Density)
footprint RESC0603(1608)_N (Chip Resistor, Body 1.6x0.8mm, IPC Medium Density)
pins: 1, 2

## RES 10K OHM 1/10W 1% 0603 SMD
designator R?, comment Resistance (Ohms): 20k  Package / Case: 0603  (hidden comment: 10K 1%)
10K 0603; Manufacturer: Panasonic Electronic Components; Manufacturer Part Number: ERJ-3EKF1002V; Power (Watts): 0.1W, 1/10W; Temperature Coefficient: ±100ppm/°C; Category: Resistors; Supplier 1: Digi-Key; RoHS: RoHS Compliant; Stock 1: 5046430; Pricing 1: 1=0.1, 50=0.015, 100=0.0114, 250=0.00844, 500=0.00624, 1000=0.00416, 2500=0.00351 (USD); Packaging: Cut Tape (CT); Tolerance: ±1%; Composition: Thick Film; Features: -; Supplier Device Package: 0603; Size / Dimension: 0.063" L x 0.031" W (1.60mm x 0.80mm); Height: 0.022" (0.55mm); Number of Terminations: 2; ComponentLink1URL: http://industrial.panasonic.com/www-cgi/jvcr13pz.cgi?E+PZ+3+AOA0002+ERJ3EKF1002V+7+WW; ComponentLink1Description: http://industrial.panasonic.com/www-cgi/jvcr13pz.cgi?E+PZ+3+AOA0002+ERJ3EKF1002V+7+WW; Supplier Part Number 1: P10.0KHCT-ND
simulation model RESISTOR (Resistor)
signal-integrity model Res
footprint RESC0603(1608)_L (Chip Resistor, Body 1.6x0.8mm, IPC High Density)
footprint RESC0603(1608)_M (Chip Resistor, Body 1.6x0.8mm, IPC Low Density)
footprint RESC0603(1608)_N (Chip Resistor, Body 1.6x0.8mm, IPC Medium Density)
pins: 1, 2

## RES 100 OHM 1% 1/10W 0603 2017
designator R?, comment Package / Case: 0603  (hidden comment: 100)
100 0603; Manufacturer: Vishay Dale; Manufacturer Part Number: CRCW0603100RFKEC; Tolerance: ±1%; Power (Watts): 0.1W, 1/10W; Temperature Coefficient: ±100ppm/°C; Supplier 1: Digi-Key; RoHS: RoHS Compliant; Category: Resistors; Stock 1: 25979; Pricing 1: 1=0.1, 10=0.033, 100=0.0136, 1000=0.00609, 2500=0.00529, 5000=0.00437 (USD); Packaging: Cut Tape (CT); Part Status: Active; Resistance (Ohms): 100; Composition: Thick Film; Features: Automotive AEC-Q200; Operating Temperature: -55°C ~ 155°C; Supplier Device Package: 0603; Size / Dimension: 0.063" L x 0.033" W (1.60mm x 0.85mm); Height - Seated (Max): 0.020" (0.50mm); Failure Rate: -; ComponentLink1URL: http://www.vishay.com/docs/20035/dcrcwe3.pdf; ComponentLink1Description: http://www.vishay.com/docs/20035/dcrcwe3.pdf; Supplier Part Number 1: 541-2975-1-ND
simulation model RESISTOR (Resistor)
signal-integrity model Res
footprint RESC0603(1608)_L (Chip Resistor, Body 1.6x0.8mm, IPC High Density)
footprint RESC0603(1608)_M (Chip Resistor, Body 1.6x0.8mm, IPC Low Density)
footprint RESC0603(1608)_N (Chip Resistor, Body 1.6x0.8mm, IPC Medium Density)
pins: 1, 2

## RES 100K OHM 1% 1/10W 0603
designator R?, comment 100K  Supplier Device Package: 0603
100K 0603; Manufacturer: Yageo; Manufacturer Part Number: RC0603FR-07100KL; Tolerance: ±1%; Power (Watts): 0.1W, 1/10W; Temperature Coefficient: ±100ppm/°C; Supplier 1: Digi-Key; RoHS: RoHS Compliant; Category: Resistors; Stock 1: 13526613; Pricing 1: 1=0.1, 10=0.015, 100=0.006, 1000=0.00268, 2500=0.00233 (USD); Packaging: Cut Tape (CT); Part Status: Active; Composition: Thick Film; Features: Moisture Resistant; Operating Temperature: -55°C ~ 155°C; Package / Case: 0603 (1608 Metric); Size / Dimension: 0.063" L x 0.032" W (1.60mm x 0.80mm); Height - Seated (Max): 0.022" (0.55mm); Failure Rate: -; ComponentLink1URL: http://www.yageo.com/documents/recent/PYu-RC_Group_51_RoHS_L_8.pdf; ComponentLink1Description: http://www.yageo.com/documents/recent/PYu-RC_Group_51_RoHS_L_8.pdf; Supplier Part Number 1: 311-100KHRCT-ND
simulation model RESISTOR (Resistor)
signal-integrity model Res
footprint RESC0603(1608)_L (Chip Resistor, Body 1.6x0.8mm, IPC High Density)
footprint RESC0603(1608)_M (Chip Resistor, Body 1.6x0.8mm, IPC Low Density)
footprint RESC0603(1608)_N (Chip Resistor, Body 1.6x0.8mm, IPC Medium Density)
pins: 1, 2

## rotary encoder
designator S?
footprint rotary encoder
pins: 1 A, 2 C, 3 B, 4 F1, 5 S1, 6 S2, 7 F2

## stm32f103rbt6
designator U?
footprint LQFP64 (LQPF64)
part A pins: 2 PC13, 3 PC14, 4 PC15, 5 PD0, 6 PD1, 7 NRST, 8 PC0, 9 PC1, 10 PC2, 11 PC3, 14 PA0, 15 PA1, 16 PA2, 17 PA3, 20 PA4, 21 PA5, 22 PA6, 23 PA7, 24 PC4, 25 PC5, 26 PB0, 27 PB1, 28 PB2, 29 PB10, 30 PB11, 33 PB12, 34 PB13, 35 PB14, 36 PB15, 37 PC6, 38 PC7, 39 PC8, 40 PC9, 41 PA8, 42 PA9, 43 PA10, 44 PA11, 45 PA12, 46 PA13, 49 PA14, 50 PA15, 51 PC10, 52 PC11, 53 PC12, 54 PD2, 55 PB3, 56 PB4, 57 PB5, 58 PB6, 59 PB7, 60 BOOT0, 61 PB8, 62 PB9
part B pins: 1 VBAT, 12 VSSA, 13 VDDA, 18 VSS, 19 VDD, 31 VSS, 32 VDD, 47 VSS, 48 VDD, 63 VSS, 64 VDD

## TestPoint
designator 5V?  (no BOM)
Test Point
footprint TestPoint-SM (Test Point - Top Pad Only)
footprint HDR1X1 (Connector; Header; 1 Position)
footprint TestPoint-BIG (Test Point - Top Pad Only)
footprint TestPoint-MD (Test Point - Top Pad Only)
footprint TestPoint-HDR (Test Point - Thru-Hole)
footprint TestPoint-TH 35 mil (Test Point - Thru-Hole 38 mil)
footprint TestPoint-TH 42 mil (Test Point - Thru-Hole 42 mil)
footprint TestPoint-TH 52 MIL (Test Point - Thru-Hole 52 mil)
pins: 1

## TestPoint-PC-W
designator BOOT?, comment TP  (value not drawn)
Test Point White; Manufacturer: Keystone Electronics; Manufacturer Part Number: 5002; Plating: Silver; Material - Insulation: Nylon 46, UL 94V-0; Material - Body: Phosphor Bronze; Supplier 1: Digi-Key; RoHS: RoHS Compliant; Category: Test and Measurement; Stock 1: 329102; Pricing 1: 1=0.37, 10=0.316, 50=0.2298, 100=0.2209, 250=0.19832, 1000=0.1616, 2500=0.14424, 5000=0.13523 (USD); Packaging: Bulk; Part Status: Active; Type: PC Test Point, Miniature; Mounting Type: 0.040" (1.02mm) Hole Diameter; Color: White; Size / Dimension: 0.100" Dia x 0.180" L (2.54mm x 4.57mm); Height: -; ComponentLink1URL: http://www.keyelco.com/product-pdf.cfm?p=1311; ComponentLink1Description: http://www.keyelco.com/product-pdf.cfm?p=1311; Supplier Part Number 1: 36-5002-ND
footprint TestPoint-TH 40 mil (Test Point - Thru-Hole 40)
pins: 1

## TPS3808G33
designator U?
footprint SOt-23-6
pins: 1 /RST, 2 GND, 3 /MR, 4 CT, 5 SENSE, 6 VDD

## TSD1265
designator S?
Button sw with LED
footprint TSD1265
pins: A, B, C, D, E, F